# EAGLE library part JST-6PIN (library con-jst)
JST Connector
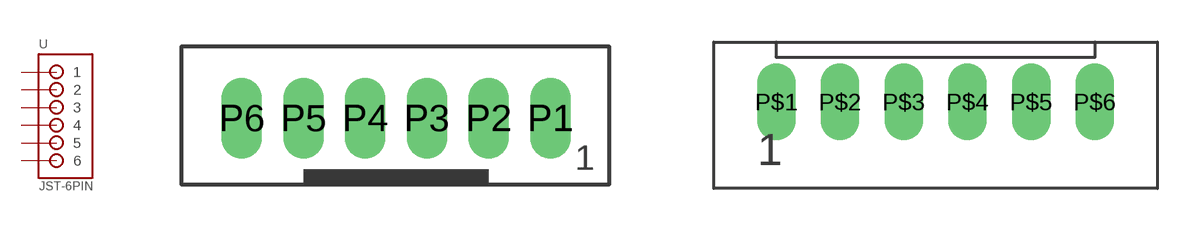
[diagram p0: symbol with the pads of B6B-PH; footprints B6B-PH, B6B-XH]

Designator prefix -

## JST-6PINB-PH  [B6B-PH]
P1  1
P2  2
P3  3
P4  4
P5  5
P6  6

## JST-6PINB-XH  [B6B-XH]
P$1  1
P$2  2
P$3  3
P$4  4
P$5  5
P$6  6

## JST-6PINS-XH  [S6B-XH]
Pads as for B6B-XH

## Footprint B6B-PH (pad centres in mm)
drill 0.8 long: P1 5,0.048; P2 3,0.048; P3 1,0.048; P4 -1,0.048; P5 -3,0.048; P6 -5,0.048

## Footprint B6B-XH (pad centres in mm)
drill 1 long: P$1 -6.25,0; P$2 -3.75,0; P$3 -1.25,0; P$4 1.25,0; P$5 3.75,0; P$6 6.25,0

## Footprint S6B-XH (pad centres in mm)
drill 1 long: P$1 -6.25,0; P$2 -3.75,0; P$3 -1.25,0; P$4 1.25,0; P$5 3.75,0; P$6 6.25,0